# Altium footprint library 0805SB.PcbLib: 1 footprints
Each footprint in its own frame and in the unit in brackets; x right, y up, seen from the top. Pads: shape width x height; smd on the part's side, far side on the other; paste and mask are expansions set on the pad; w line width, h text height; cw(c..) or ccw(c..) is an arc to the next point about the centre after c.
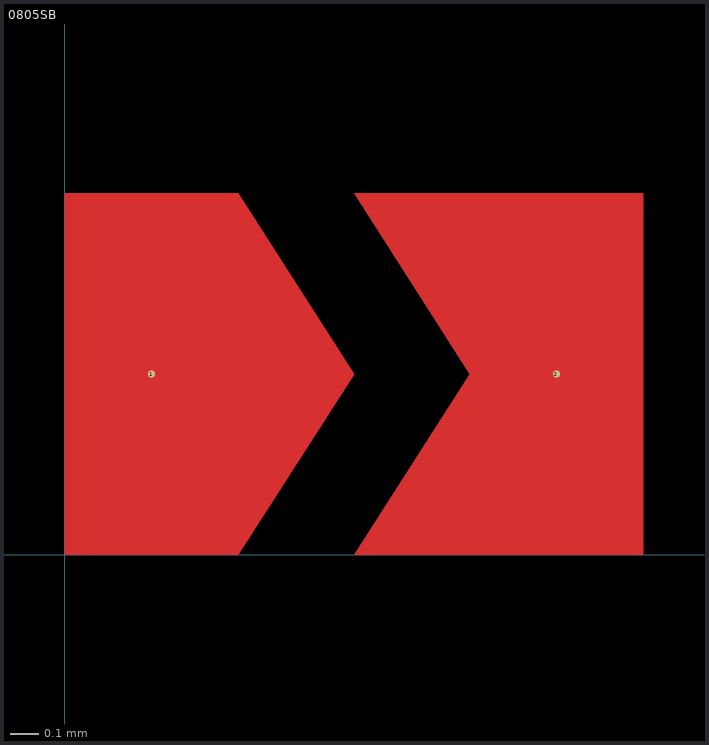
[diagram p0: the footprint, top view; thin cyan lines are the x and y axes]

## 0805SB [mm]
pads (2):
  round 0.025 smd: 1(0.3,0.625) 2(1.7,0.625)
Top Layer:
  region: 0.6,1.25 1,0.625 0.6,0 0,0 0,1.25
  region: 1,0 1.4,0.625 1,1.25 2,1.25 2,0
Top Solder:
  rectangle: -0.1,-0.1 2.1,1.35
3D body: height 0.3, standoff 0, extent 0.4,0 1.7,1.25